# EAGLE library part CAY10-102J4LF (library SamacSys_Parts)
Bourns CAY10 Series 1k +/-5% Isolated SMT Resistor Array, 4 Resistors, 0.125W total 0804 Package Convex Source: Datasheet <https://componentsearchengine.com/Datasheets/1/CAY10-102J4LF.pdf>
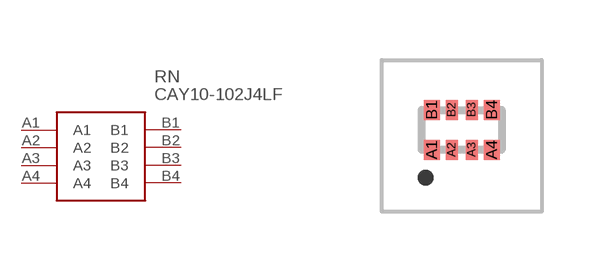
[diagram p4: symbol with the pads of CAY10102J4LF; footprint CAY10102J4LF]

Designator prefix RN

## CAY10-102J4LF (Description: Bourns CAY10 Series 1k +/-5% Isolated SMT Resistor Array, 4 Resistors, 0.125W total 0804 Package Convex; Height: 0.45mm; Manufacturer_Name: Bourns; Manufacturer_Part_Number: CAY10-102J4LF; Mouser_Part_Number: 652-CAY10-102J4LF; Mouser_Price-Stock: https://www.mouser.co.uk/ProductDetail/Bourns/CAY10-102J4LF?qs=sGPwja4MK3eTf781t9KvQQ%3D%3D)  [CAY10102J4LF]
A1  A1
A2  A2
A3  A3
A4  A4
B1  B1
B2  B2
B3  B3
B4  B4

## Footprint CAY10102J4LF (pad centres in mm)
CAY10-102J4LF-1
smd 0.4 x 0.5: A1 -0.75,-0.5; A4 0.75,-0.5; B1 -0.75,0.5; B4 0.75,0.5
smd 0.3 x 0.5: A2 -0.25,-0.5; A3 0.25,-0.5; B2 -0.25,0.5; B3 0.25,0.5